# Altium footprint library MJ3502.PcbLib: 1 footprints
Each footprint in its own frame and in the unit in brackets; x right, y up, seen from the top. Pads: shape width x height; smd on the part's side, far side on the other; paste and mask are expansions set on the pad; w line width, h text height; cw(c..) or ccw(c..) is an arc to the next point about the centre after c.
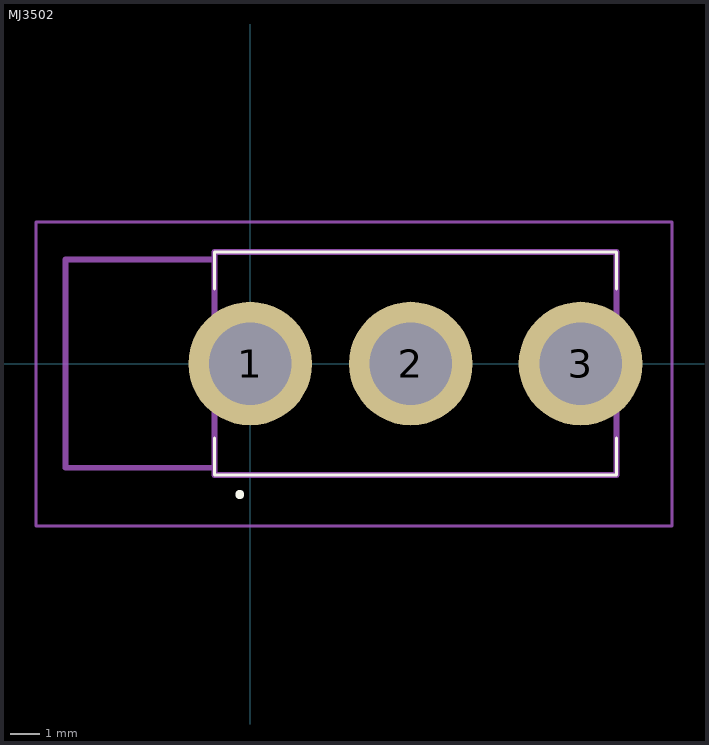
[diagram p0: the footprint, top view; thin cyan lines are the x and y axes]

## MJ3502 [mm]
pads (3):
  round 4.155 hole 2.77: 1(0,0) 2(5.4,0) 3(11.1,0)
Top Overlay:
  lines w0.1: -1.2,-2.5 -1.2,-3.75 12.3,-3.75 12.3,-2.5 ; -1.2,2.5 -1.2,3.75 12.3,3.75 12.3,2.5
  lines w0.2: -0.4,-4.4 -0.4,-4.4 ; -0.4,-4.4 ccw(c-0.35,-4.4) -0.3,-4.4 ; -0.4,-4.4 cw(c-0.35,-4.4) -0.3,-4.4 ; -0.4,-4.4 -0.4,-4.4 ; -0.4,-4.4 ccw(c-0.35,-4.4) -0.3,-4.4 ; -0.3,-4.4 -0.3,-4.4
Mechanical 15:
  lines w0.2: -6.2,-3.5 -1.2,-3.5 -1.2,3.5 -6.2,3.5 -6.2,-3.5 ; -1.2,-3.75 12.3,-3.75 12.3,3.75 -1.2,3.75 -1.2,-3.75
Mechanical 20:
  lines w0.1: -7.2,-5.45 14.178,-5.45 14.178,4.75 -7.2,4.75 -7.2,-5.45